# Altium schematic symbol library DIODE,Array,Schottky,Series,40V,120mA,SOT23.Schlib: 1 symbol
Pins are listed as number, name and electrical type; pins without a type are passive.

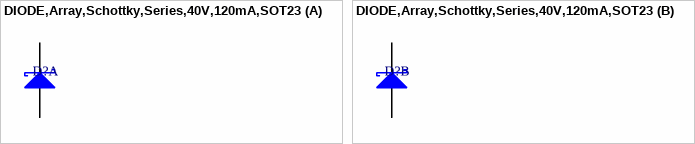
[diagram p0: symbol DIODE,Array,Schottky,Series,40V,120mA,SOT23]

## DIODE,Array,Schottky,Series,40V,120mA,SOT23
designator D?
part A pins: 1 A, 3 K
part B pins: 1 A, 3 K